# Altium schematic symbol library BMS_Components.SchLib: 11 symbols
Pins are listed as number, name and electrical type; pins without a type are passive.

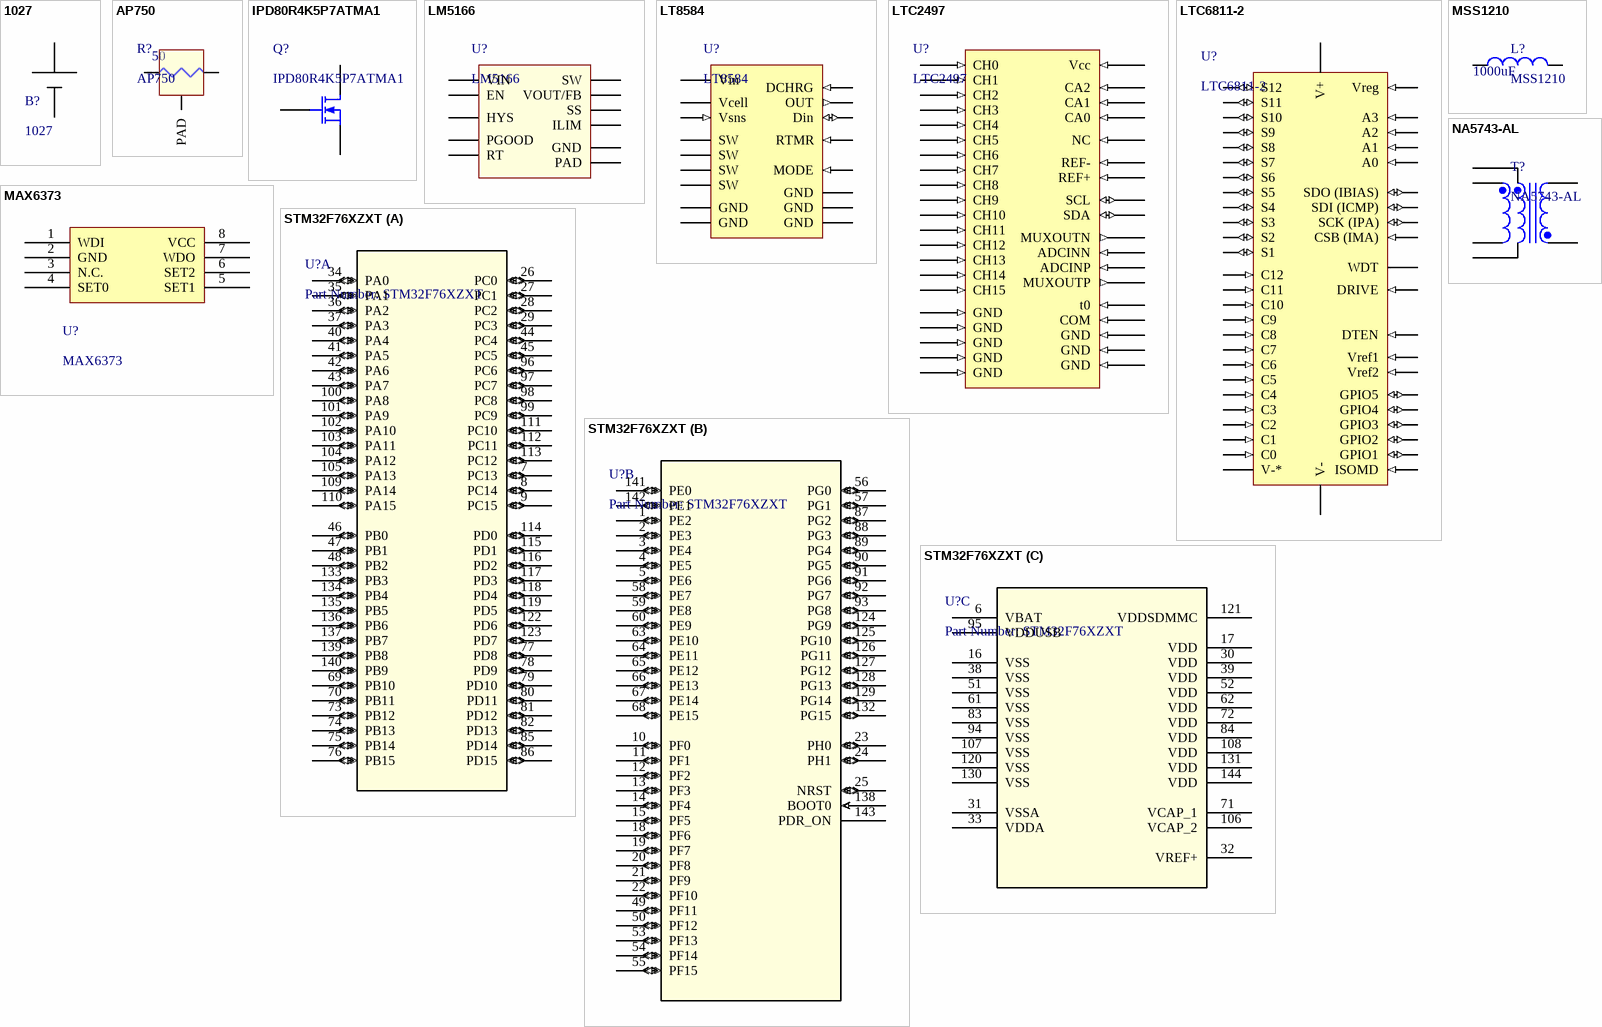
[diagram p0: symbols 1027 to STM32F76XZXT]

## 1027
designator B?
Keystone Cell holder, 23mm diameter; ComponentLink1Description: datasheet; ComponentLink1URL: https://www.mouser.com/datasheet/2/215/027-743097.pdf
footprint 1027 (Keystone Cell holder, 23mm diameter)
footprint 1027 - duplicate (Keystone Cell holder, 23mm diameter)
pins: 1, 2

## AP750
designator R?  value 50
ComponentLink1Description: Datasheet; ComponentLink1URL: http://www.arcolresistors.com/wp-content/uploads/2017/03/AP750-1-34.161.pdf
footprint AP750 D2PAK (D2-PAK for AP750 Resistor)
pins: 1, 3, 4 PAD

## IPD80R4K5P7ATMA1
designator Q?
MOSFET N-CH/800V/1.5A/ CoolMOSªP7PowerTransistor; ComponentLink1Description: Datasheet; ComponentLink1URL: https://www.mouser.com/datasheet/2/308/FQD1N60C-1120215.pdf
footprint TO-252-3 (DPAK, 3-Leads, Body 6.75x6.22mm)
pins: 1 G, 2 S, 3 D

## LM5166
designator U?
3-V to 65-V Input, 500-mA Synchronous Buck Converter With Ultra-Low IQ; ComponentLink1Description: Datasheet; ComponentLink1URL: http://www.ti.com/lit/ds/symlink/lm5166.pdf
footprint DRC0010J_V (SON, 10-Leads, Body 3x3mm, Pitch 0.5mm, Thermal Pad 2.4x1.65mm, TI Recommended)
pins: 1 SW, 2 VIN, 3 ILIM, 4 SS, 5 RT, 6 PGOOD, 7 EN, 8 VOUT/FB, 9 HYS, 10 GND, 11 PAD

## LT8584
designator U?
2.5A Monolithic Active Cell Balancer with Telemetry Interface; ComponentLink1Description: Datasheet; ComponentLink1URL: https://www.analog.com/media/en/technical-documentation/data-sheets/8584fb.pdf
footprint TSSOP16 (16-Lead Plastic TSSOP (4.4mm))
pins: 1 GND (power), 2 GND (power), 3 GND (power), 4 GND (power), 5 MODE (in), 6 RTMR (in), 7 Din (io), 8 OUT (out), 9 Vin (power), 10 Vcell, 11 Vsns (in), 12 DCHRG (in), 13 SW (power), 14 SW (power), 15 SW (power), 16 SW (power), 17 GND (power)

## LTC2497
designator U?
16-Bit 8-/16-Channel ADC with Easy Drive Input Current Cancellation and I2C Interface; ComponentLink1Description: Datasheet; ComponentLink1URL: https://www.analog.com/media/en/technical-documentation/data-sheets/2497fb.pdf
footprint LT-UHF-38_M (QFN, 38-Leads, Body 7.1x5.1mm, Pitch 0.5mm, Thermal Pad 3.15x5.15mm, IPC Low Density)
pins: 1 GND (in), 2 SCL (io), 3 SDA (io), 4 GND (in), 5 NC (in), 6 GND (in), 7 COM (in), 8 CH0 (in), 9 CH1 (in), 10 CH2 (in), 11 CH3 (in), 12 CH4 (in), 13 CH5 (in), 14 CH6 (in), 15 CH7 (in), 16 CH8 (in), 17 CH9 (in), 18 CH10 (in), 19 CH11 (in), 20 CH12 (in), 21 CH13 (in), 22 CH14 (in), 23 CH15 (in), 24 MUXOUTP (out), 25 ADCINP (in), 26 ADCINN (in), 27 MUXOUTN (out), 28 Vcc (in), 29 REF+ (in), 30 REF- (in), 31 GND (in), 32 GND (in), 33 GND (in), 34 GND (in), 35 t0 (in), 36 CA0 (in), 37 CA1 (in), 38 CA2 (in), 39 GND (in)

## LTC6811-2
designator U?
12 Channel Multicell Battery Monitor with Addressable Interface, Generation 4; ComponentLink1Description: Datasheet; ComponentLink1URL: https://www.analog.com/media/en/technical-documentation/data-sheets/68111fb.pdf
footprint SSOP48
pins: 1 V+ (power), 2 C12 (in), 3 S12 (io), 4 C11 (in), 5 S11 (io), 6 C10 (in), 7 S10 (io), 8 C9 (in), 9 S9 (io), 10 C8 (in), 11 S8 (io), 12 C7 (in), 13 S7 (io), 14 C6 (in), 15 S6 (io), 16 C5 (in), 17 S5 (io), 18 C4 (in), 19 S4 (io), 20 C3 (in), 21 S3 (io), 22 C2 (in), 23 S2 (io), 24 C1 (in), 25 S1 (io), 26 C0 (in), 27 GPIO1 (io), 28 GPIO2 (io), 29 GPIO3 (io), 30 V-* (power), 31 V- (power), 32 GPIO4 (io), 33 GPIO5 (io), 34 Vref2 (in), 35 Vref1 (in), 36 DTEN (in), 37 Vreg (in), 38 DRIVE (in), 39 WDT (oc), 40 ISOMD (in), 41 CSB (IMA) (in), 42 SCK (IPA) (io), 43 SDI (ICMP) (io), 44 SDO (IBIAS) (io), 45 A0 (in), 46 A1 (in), 47 A2 (in), 48 A3 (in)

## MAX6373
designator U?
footprint SOT23-8 (SOT23, 8-Leads, Body 2.9x1.625mm, Pitch 0.65 mm)
pins: 1 WDI, 2 GND, 3 N.C., 4 SET0, 5 SET1, 6 SET2, 7 WDO, 8 VCC

## MSS1210
designator L?  value 1000uF
Shielded Power Inductor; ComponentLink1Description: Datasheet; ComponentLink1URL: http://www.mouser.com/datasheet/2/597/mss1210-270677.pdf
footprint MSS1210 (Coilcraft inductor)
pins: 1, 2

## NA5743-AL
designator T?
Flyback Transformer; ComponentLink1Description: Datasheet; ComponentLink1URL: https://www.coilcraft.com/pdfs/na5743.pdf
footprint NA5743-A (Flyback Transformer)
pins: 1, 2, 3, 4, 5, 8

## STM32F76XZXT
designator U?, comment Part Number: STM32F76XZXT
No Description Available; Vendor: STMicroelectronics; Manufacturer_Part_Number: STM32F76XZXT; Copyright: Copyright (C) 2016 Accelerated Designs. All rights reserved; RefDes: RefDes; Type: DEV; Value: Value
footprint LQFP-144_20X20mm
part A pins: 7 PC13 (io), 8 PC14 (io), 9 PC15 (io), 26 PC0 (io), 27 PC1 (io), 28 PC2 (io), 29 PC3 (io), 34 PA0 (io), 35 PA1 (io), 36 PA2 (io), 37 PA3 (io), 40 PA4 (io), 41 PA5 (io), 42 PA6 (io), 43 PA7 (io), 44 PC4 (io), 45 PC5 (io), 46 PB0 (io), 47 PB1 (io), 48 PB2 (io), 69 PB10 (io), 70 PB11 (io), 73 PB12 (io), 74 PB13 (io), 75 PB14 (io), 76 PB15 (io), 77 PD8 (io), 78 PD9 (io), 79 PD10 (io), 80 PD11 (io), 81 PD12 (io), 82 PD13 (io), 85 PD14 (io), 86 PD15 (io), 96 PC6 (io), 97 PC7 (io), 98 PC8 (io), 99 PC9 (io), 100 PA8 (io), 101 PA9 (io), 102 PA10 (io), 103 PA11 (io), 104 PA12 (io), 105 PA13 (io), 109 PA14 (io), 110 PA15 (io), 111 PC10 (io), 112 PC11 (io), 113 PC12 (io), 114 PD0 (io), 115 PD1 (io), 116 PD2 (io), 117 PD3 (io), 118 PD4 (io), 119 PD5 (io), 122 PD6 (io), 123 PD7 (io), 133 PB3 (io), 134 PB4 (io), 135 PB5 (io), 136 PB6 (io), 137 PB7 (io), 139 PB8 (io), 140 PB9 (io)
part B pins: 1 PE2 (io), 2 PE3 (io), 3 PE4 (io), 4 PE5 (io), 5 PE6 (io), 10 PF0 (io), 11 PF1 (io), 12 PF2 (io), 13 PF3 (io), 14 PF4 (io), 15 PF5 (io), 18 PF6 (io), 19 PF7 (io), 20 PF8 (io), 21 PF9 (io), 22 PF10 (io), 23 PH0 (io), 24 PH1 (io), 25 NRST (io), 49 PF11 (io), 50 PF12 (io), 53 PF13 (io), 54 PF14 (io), 55 PF15 (io), 56 PG0 (io), 57 PG1 (io), 58 PE7 (io), 59 PE8 (io), 60 PE9 (io), 63 PE10 (io), 64 PE11 (io), 65 PE12 (io), 66 PE13 (io), 67 PE14 (io), 68 PE15 (io), 87 PG2 (io), 88 PG3 (io), 89 PG4 (io), 90 PG5 (io), 91 PG6 (io), 92 PG7 (io), 93 PG8 (io), 124 PG9 (io), 125 PG10 (io), 126 PG11 (io), 127 PG12 (io), 128 PG13 (io), 129 PG14 (io), 132 PG15 (io), 138 BOOT0 (in), 141 PE0 (io), 142 PE1 (io), 143 PDR_ON
part C pins: 6 VBAT (power), 16 VSS (power), 17 VDD (power), 30 VDD (power), 31 VSSA (power), 32 VREF+ (power), 33 VDDA (power), 38 VSS (power), 39 VDD (power), 51 VSS (power), 52 VDD (power), 61 VSS (power), 62 VDD (power), 71 VCAP_1 (power), 72 VDD (power), 83 VSS (power), 84 VDD (power), 94 VSS (power), 95 VDDUSB (power), 106 VCAP_2 (power), 107 VSS (power), 108 VDD (power), 120 VSS (power), 121 VDDSDMMC (power), 130 VSS (power), 131 VDD (power), 144 VDD (power)